# Altium schematic symbol library TundraHaptics.SchLib: 7 symbols
Pins are listed as number, name and electrical type; pins without a type are passive.

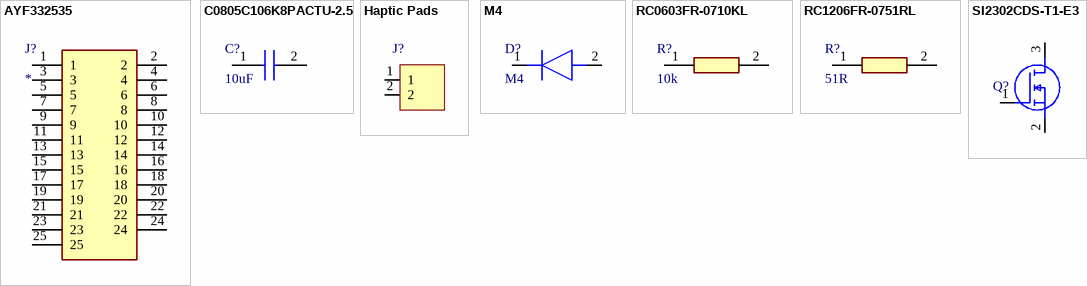
[diagram p0: symbols AYF332535 to SI2302CDS-T1-E3]

## AYF332535
designator J?
Connector; Manufacturer_Name: Panasonic; Manufacturer_Part_Number: AYF332535; Datasheet Link: https://www3.panasonic.biz/ac/cdn/e/control/connector/fpc-ffc/catalog/con_eng_y3b.pdf; Height: 1mm; Mouser Part Number: 769-AYF332535; Mouser Price/Stock: https://www.mouser.co.uk/ProductDetail/Panasonic-Industrial-Devices/AYF332535?qs=RtJ0qN3Pzof%252BwnUyi8U%252B%2FA%3D%3D; Arrow Part Number: AYF332535; Arrow Price/Stock: https://www.arrow.com/en/products/ayf332535/panasonic?region=nac
footprint AYF332535
pins: 1, 2, 3, 4, 5, 6, 7, 8, 9, 10, 11, 12, 13, 14, 15, 16, 17, 18, 19, 20, 21, 22, 23, 24, 25

## C0805C106K8PACTU-2.5
designator C?, comment 10uF
Capacitor; Manufacturer_Name: KEMET; Manufacturer_Part_Number: C0805C106K8PACTU-2.5; Datasheet Link: https://www.kemet.com/specsheet/C0805C106K8PACTU; Height: 1.4mm; Mouser Part Number: N/A; Mouser Price/Stock: https://www.mouser.com/Search/Refine.aspx?Keyword=N%2FA
footprint CAPC2012X140N
pins: 1, 2

## Haptic Pads
designator J?  (value not drawn)
footprint Haptic Pads
pins: 1, 2

## M4
designator D?
Diode; Manufacturer_Name: Diotec; Datasheet Link: https://diotec.com/request/datasheet/m1.pdf; Height: 2.4mm; Manufacturer_Part_Number: M4; Mouser Part Number: 637-M4; Mouser Price/Stock: https://www.mouser.co.uk/ProductDetail/Diotec-Semiconductor/M4?qs=OlC7AqGiEDkbHMrD%252B6G9HQ%3D%3D
footprint DIOM5327X240N
pins: 1 K, 2 A

## RC0603FR-0710KL
designator R?, comment 10k
Resistor; Manufacturer_Name: KEMET; Manufacturer_Part_Number: RC0603FR-0710KL; Datasheet Link: http://www.yageo.com/documents/recent/PYu-RC0603_51_RoHS_L_v5.pdf; Height: 0.55mm; Mouser Part Number: 603-RC0603FR-0710KL; Mouser Price/Stock: https://www.mouser.co.uk/ProductDetail/YAGEO/RC0603FR-0710KL?qs=grNVn54RoB%252B3GtjbJj3wJQ%3D%3D; Arrow Part Number: RC0603FR-0710KL; Arrow Price/Stock: https://www.arrow.com/en/products/rc0603fr-0710kl/yageo?region=nac
footprint RESC1608X55N
pins: 1, 2

## RC1206FR-0751RL
designator R?, comment 51R
51R Resistor; Manufacturer_Name: KEMET; Manufacturer_Part_Number: RC1206FR-0751RL; Datasheet Link: https://www.sos.sk/productdata/35/10/4/35104/RC1206.pdf; Height: 0.65mm; Mouser Part Number: 603-RC1206FR-0751RL; Mouser Price/Stock: https://www.mouser.com/Search/Refine.aspx?Keyword=603-RC1206FR-0751RL
footprint RESC3116X65N
pins: 1, 2

## SI2302CDS-T1-E3
designator Q?, comment N Channel Mosfet  (value not drawn)
Mosfet; Supplier 1: Mouser; Supplier Part Number 1: 781-SI2302CDS-E3
footprint SOT95P237X112-3N
pins: 1 G, 2 S, 3 D